# EAGLE library part 52435-2471 (library 52435-2471)
Conn FFC/FPC Connector SKT 24 POS 0.5mm Solder RA SMD Embossed T/R Check availability <https://pricing.snapeda.com/parts/52435-2471/Molex/view-part?ref=eda>
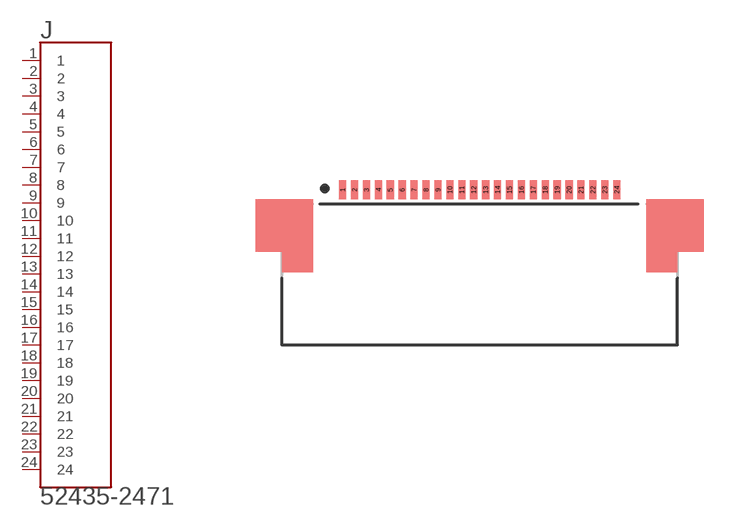
[diagram p0: symbol with the pads of MOLEX_52435-2471; footprint MOLEX_52435-2471]

Designator prefix J

## 52435-2471 (Availability: In Stock; Description: 24 Position FFC, FPC Connector Contacts, Top 0.020 (0.50mm) Surface Mount, Right Angle; MF: Molex; MP: 52435-2471; Package: None; Price: None; Purchase-URL: https://pricing.snapeda.com/search/part/52435-2471/?ref=eda)  [MOLEX_52435-2471]
1  1  pas
2  2  pas
3  3  pas
4  4  pas
5  5  pas
6  6  pas
7  7  pas
8  8  pas
9  9  pas
10  10  pas
11  11  pas
12  12  pas
13  13  pas
14  14  pas
15  15  pas
16  16  pas
17  17  pas
18  18  pas
19  19  pas
20  20  pas
21  21  pas
22  22  pas
23  23  pas
24  24  pas

## Footprint MOLEX_52435-2471 (pad centres in mm)
smd 0.3 x 0.8: 1 -5.75,0; 2 -5.25,0; 3 -4.75,0; 4 -4.25,0; 5 -3.75,0; 6 -3.25,0; 7 -2.75,0; 8 -2.25,0; 9 -1.75,0; 10 -1.25,0; 11 -0.75,0; 12 -0.25,0; 13 0.25,0; 14 0.75,0; 15 1.25,0; 16 1.75,0; 17 2.25,0; 18 2.75,0; 19 3.25,0; 20 3.75,0; 21 4.25,0; 22 4.75,0; 23 5.25,0; 24 5.75,0